# EAGLE library part ALAN-102 (library MISC)
LAN 10/100 PULSE XFMR 1CT:1CT 350UH SMD
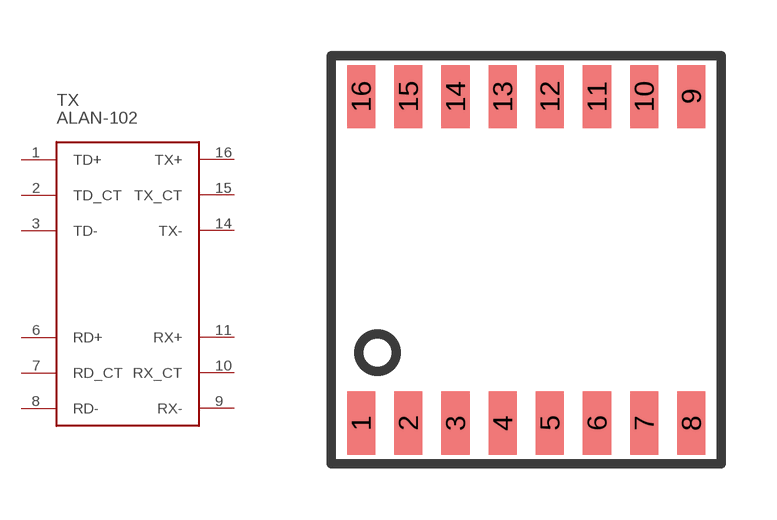
[diagram p6: symbol with the pads of ALAN-102; footprint ALAN-102]

Designator prefix TX

## ALAN-102 (DIGIKEY: 535-13405-5-ND; PRICE_PER: 4.02; VALUE: ALAN-102)  [ALAN-102]
1  TD+
2  TD_CT
3  TD-
6  RD+
7  RD_CT
8  RD-
9  RX-
10  RX_CT
11  RX+
14  TX-
15  TX_CT
16  TX+

## Footprint ALAN-102 (pad centres in mm)
smd 0.76 x 1.7: 1 -4.445,-4.4; 2 -3.175,-4.4; 3 -1.905,-4.4; 4 -0.635,-4.4; 5 0.635,-4.4; 6 1.905,-4.4; 7 3.175,-4.4; 8 4.445,-4.4; 9 4.445,4.4; 10 3.175,4.4; 11 1.905,4.4; 12 0.635,4.4; 13 -0.635,4.4; 14 -1.905,4.4; 15 -3.175,4.4; 16 -4.445,4.4